# Altium footprint library AD9914BCPZ.PcbLib: 3 footprints
Each footprint in its own frame and in the unit in brackets; x right, y up, seen from the top. Pads: shape width x height; smd on the part's side, far side on the other; paste and mask are expansions set on the pad; w line width, h text height; cw(c..) or ccw(c..) is an arc to the next point about the centre after c.
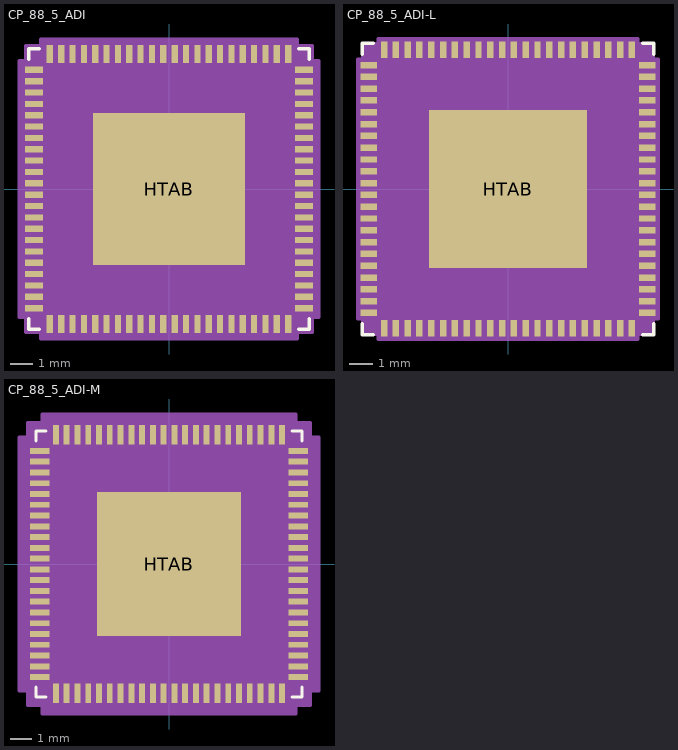
[diagram p0: the footprints below, top view; thin cyan lines are the x and y axes]

## CP_88_5_ADI [mm]
pads (89):
  rect 0.805x0.275 smd paste+0 mask+0: 1(-5.952,5.25) 2(-5.952,4.75) 3(-5.952,4.25) 4(-5.952,3.75) 5(-5.952,3.25) 6(-5.952,2.75) 7(-5.952,2.25) 8(-5.952,1.75) 9(-5.952,1.25) 10(-5.952,0.75) 11(-5.952,0.25) 12(-5.952,-0.25) 13(-5.952,-0.75) 14(-5.952,-1.25) 15(-5.952,-1.75) 16(-5.952,-2.25) 17(-5.952,-2.75) 18(-5.952,-3.25) 19(-5.952,-3.75) 20(-5.952,-4.25) 21(-5.952,-4.75) 22(-5.952,-5.25) 45(5.952,-5.25) 46(5.952,-4.75) 47(5.952,-4.25) 48(5.952,-3.75) 49(5.952,-3.25) 50(5.952,-2.75) 51(5.952,-2.25) 52(5.952,-1.75) 53(5.952,-1.25) 54(5.952,-0.75) 55(5.952,-0.25) 56(5.952,0.25) 57(5.952,0.75) 58(5.952,1.25) 59(5.952,1.75) 60(5.952,2.25) 61(5.952,2.75) 62(5.952,3.25) 63(5.952,3.75) 64(5.952,4.25) 65(5.952,4.75) 66(5.952,5.25)
  rect 0.275x0.805 smd paste+0 mask+0: 23(-5.25,-5.952) 24(-4.75,-5.952) 25(-4.25,-5.952) 26(-3.75,-5.952) 27(-3.25,-5.952) 28(-2.75,-5.952) 29(-2.25,-5.952) 30(-1.75,-5.952) 31(-1.25,-5.952) 32(-0.75,-5.952) 33(-0.25,-5.952) 34(0.25,-5.952) 35(0.75,-5.952) 36(1.25,-5.952) 37(1.75,-5.952) 38(2.25,-5.952) 39(2.75,-5.952) 40(3.25,-5.952) 41(3.75,-5.952) 42(4.25,-5.952) 43(4.75,-5.952) 44(5.25,-5.952) 67(5.25,5.952) 68(4.75,5.952) 69(4.25,5.952) 70(3.75,5.952) 71(3.25,5.952) 72(2.75,5.952) 73(2.25,5.952) 74(1.75,5.952) 75(1.25,5.952) 76(0.75,5.952) 77(0.25,5.952) 78(-0.25,5.952) 79(-0.75,5.952) 80(-1.25,5.952) 81(-1.75,5.952) 82(-2.25,5.952) 83(-2.75,5.952) 84(-3.25,5.952) 85(-3.75,5.952) 86(-4.25,5.952) 87(-4.75,5.952) 88(-5.25,5.952)
  rect 6.7x6.7 smd paste+0 mask+0: HTAB(0,0)
Top Overlay:
  lines w0.152: -6.177,-5.72 -6.177,-6.177 -5.72,-6.177 ; -6.177,5.72 -6.177,6.177 -5.72,6.177 ; 5.72,-6.177 6.177,-6.177 6.177,-5.72 ; 5.72,6.177 6.177,6.177 6.177,5.72
  text ".Designator" at 0.635,-3.492 h1.27
Top Paste:
  region: 2.11,3.25 2.11,2.11 3.25,2.11 3.25,3.25
  region: 0.77,3.25 0.77,2.11 1.91,2.11 1.91,3.25
  region: -0.57,3.25 -0.57,2.11 0.57,2.11 0.57,3.25
  region: -1.91,3.25 -1.91,2.11 -0.77,2.11 -0.77,3.25
  region: -3.25,3.25 -3.25,2.11 -2.11,2.11 -2.11,3.25
  region: 2.11,1.91 2.11,0.77 3.25,0.77 3.25,1.91
  region: 0.77,1.91 0.77,0.77 1.91,0.77 1.91,1.91
  region: -0.57,1.91 -0.57,0.77 0.57,0.77 0.57,1.91
  region: -1.91,1.91 -1.91,0.77 -0.77,0.77 -0.77,1.91
  region: -3.25,1.91 -3.25,0.77 -2.11,0.77 -2.11,1.91
  region: 2.11,0.57 2.11,-0.57 3.25,-0.57 3.25,0.57
  region: 0.77,0.57 0.77,-0.57 1.91,-0.57 1.91,0.57
  region: -0.57,0.57 -0.57,-0.57 0.57,-0.57 0.57,0.57
  region: -1.91,0.57 -1.91,-0.57 -0.77,-0.57 -0.77,0.57
  region: -3.25,0.57 -3.25,-0.57 -2.11,-0.57 -2.11,0.57
  region: 2.11,-0.77 2.11,-1.91 3.25,-1.91 3.25,-0.77
  region: 0.77,-0.77 0.77,-1.91 1.91,-1.91 1.91,-0.77
  region: -0.57,-0.77 -0.57,-1.91 0.57,-1.91 0.57,-0.77
  region: -1.91,-0.77 -1.91,-1.91 -0.77,-1.91 -0.77,-0.77
  region: -3.25,-0.77 -3.25,-1.91 -2.11,-1.91 -2.11,-0.77
  region: 2.11,-2.11 2.11,-3.25 3.25,-3.25 3.25,-2.11
  region: 0.77,-2.11 0.77,-3.25 1.91,-3.25 1.91,-2.11
  region: -0.57,-2.11 -0.57,-3.25 0.57,-3.25 0.57,-2.11
  region: -1.91,-2.11 -1.91,-3.25 -0.77,-3.25 -0.77,-2.11
  region: -3.25,-2.11 -3.25,-3.25 -2.11,-3.25 -2.11,-2.11
Mechanical 13:
  drawing of 184 lines, arcs and shapes, not listed
  text ".Designator" at 0.635,-3.492 h1.27
Mechanical 15:
  region: 6.304,-5.641 6.304,-6.304 5.641,-6.304 5.641,-6.609 -5.641,-6.609 -5.641,-6.304 -6.304,-6.304 -6.304,-5.641 -6.609,-5.641 -6.609,5.641 -6.304,5.641 -6.304,6.304 -5.641,6.304 -5.641,6.609 5.641,6.609 5.641,6.304 6.304,6.304 6.304,5.641 6.609,5.641 6.609,-5.641
  lines w0.152: -6.609,-5.641 -6.609,5.641 -6.304,5.641 -6.304,6.304 -5.641,6.304 -5.641,6.609 5.641,6.609 5.641,6.304 6.304,6.304 6.304,5.641 6.609,5.641 6.609,-5.641 6.304,-5.641 6.304,-6.304 5.641,-6.304 5.641,-6.609 -5.641,-6.609 -5.641,-6.304 -6.304,-6.304 -6.304,-5.641 -6.609,-5.641
3D body "CP_88_5_ADI.step": height 0.9, standoff 0, extent -6.05,-6.05 6.05,6.05

## CP_88_5_ADI-L [mm]
pads (89):
  rect 0.275x0.703 smd paste+0 mask+0: 1(5.25,5.902) 2(4.75,5.902) 3(4.25,5.902) 4(3.75,5.902) 5(3.25,5.902) 6(2.75,5.902) 7(2.25,5.902) 8(1.75,5.902) 9(1.25,5.902) 10(0.75,5.902) 11(0.25,5.902) 12(-0.25,5.902) 13(-0.75,5.902) 14(-1.25,5.902) 15(-1.75,5.902) 16(-2.25,5.902) 17(-2.75,5.902) 18(-3.25,5.902) 19(-3.75,5.902) 20(-4.25,5.902) 21(-4.75,5.902) 22(-5.25,5.902) 45(-5.25,-5.902) 46(-4.75,-5.902) 47(-4.25,-5.902) 48(-3.75,-5.902) 49(-3.25,-5.902) 50(-2.75,-5.902) 51(-2.25,-5.902) 52(-1.75,-5.902) 53(-1.25,-5.902) 54(-0.75,-5.902) 55(-0.25,-5.902) 56(0.25,-5.902) 57(0.75,-5.902) 58(1.25,-5.902) 59(1.75,-5.902) 60(2.25,-5.902) 61(2.75,-5.902) 62(3.25,-5.902) 63(3.75,-5.902) 64(4.25,-5.902) 65(4.75,-5.902) 66(5.25,-5.902)
  rect 0.703x0.275 smd paste+0 mask+0: 23(-5.902,5.25) 24(-5.902,4.75) 25(-5.902,4.25) 26(-5.902,3.75) 27(-5.902,3.25) 28(-5.902,2.75) 29(-5.902,2.25) 30(-5.902,1.75) 31(-5.902,1.25) 32(-5.902,0.75) 33(-5.902,0.25) 34(-5.902,-0.25) 35(-5.902,-0.75) 36(-5.902,-1.25) 37(-5.902,-1.75) 38(-5.902,-2.25) 39(-5.902,-2.75) 40(-5.902,-3.25) 41(-5.902,-3.75) 42(-5.902,-4.25) 43(-5.902,-4.75) 44(-5.902,-5.25) 67(5.902,-5.25) 68(5.902,-4.75) 69(5.902,-4.25) 70(5.902,-3.75) 71(5.902,-3.25) 72(5.902,-2.75) 73(5.902,-2.25) 74(5.902,-1.75) 75(5.902,-1.25) 76(5.902,-0.75) 77(5.902,-0.25) 78(5.902,0.25) 79(5.902,0.75) 80(5.902,1.25) 81(5.902,1.75) 82(5.902,2.25) 83(5.902,2.75) 84(5.902,3.25) 85(5.902,3.75) 86(5.902,4.25) 87(5.902,4.75) 88(5.902,5.25)
  rect 6.7x6.7 smd paste+0 mask+0: HTAB(0,0)
Top Overlay:
  lines w0.152: -6.177,-5.72 -6.177,-6.177 -5.72,-6.177 ; -6.177,5.72 -6.177,6.177 -5.72,6.177 ; 5.72,-6.177 6.177,-6.177 6.177,-5.72 ; 5.72,6.177 6.177,6.177 6.177,5.72
  text ".Designator" at -3.492,-0.635 h1.27
Top Paste:
  region: -2.11,3.25 -3.25,3.25 -3.25,2.11 -2.11,2.11
  region: -2.11,1.91 -3.25,1.91 -3.25,0.77 -2.11,0.77
  region: -2.11,0.57 -3.25,0.57 -3.25,-0.57 -2.11,-0.57
  region: -2.11,-0.77 -3.25,-0.77 -3.25,-1.91 -2.11,-1.91
  region: -2.11,-2.11 -3.25,-2.11 -3.25,-3.25 -2.11,-3.25
  region: -0.77,3.25 -1.91,3.25 -1.91,2.11 -0.77,2.11
  region: -0.77,1.91 -1.91,1.91 -1.91,0.77 -0.77,0.77
  region: -0.77,0.57 -1.91,0.57 -1.91,-0.57 -0.77,-0.57
  region: -0.77,-0.77 -1.91,-0.77 -1.91,-1.91 -0.77,-1.91
  region: -0.77,-2.11 -1.91,-2.11 -1.91,-3.25 -0.77,-3.25
  region: 0.57,3.25 -0.57,3.25 -0.57,2.11 0.57,2.11
  region: 0.57,1.91 -0.57,1.91 -0.57,0.77 0.57,0.77
  region: 0.57,0.57 -0.57,0.57 -0.57,-0.57 0.57,-0.57
  region: 0.57,-0.77 -0.57,-0.77 -0.57,-1.91 0.57,-1.91
  region: 0.57,-2.11 -0.57,-2.11 -0.57,-3.25 0.57,-3.25
  region: 1.91,3.25 0.77,3.25 0.77,2.11 1.91,2.11
  region: 1.91,1.91 0.77,1.91 0.77,0.77 1.91,0.77
  region: 1.91,0.57 0.77,0.57 0.77,-0.57 1.91,-0.57
  region: 1.91,-0.77 0.77,-0.77 0.77,-1.91 1.91,-1.91
  region: 1.91,-2.11 0.77,-2.11 0.77,-3.25 1.91,-3.25
  region: 3.25,3.25 2.11,3.25 2.11,2.11 3.25,2.11
  region: 3.25,1.91 2.11,1.91 2.11,0.77 3.25,0.77
  region: 3.25,0.57 2.11,0.57 2.11,-0.57 3.25,-0.57
  region: 3.25,-0.77 2.11,-0.77 2.11,-1.91 3.25,-1.91
  region: 3.25,-2.11 2.11,-2.11 2.11,-3.25 3.25,-3.25
Mechanical 13:
  drawing of 184 lines, arcs and shapes, not listed
  text ".Designator" at -3.492,-0.635 h1.27
Mechanical 15:
  region: -5.489,-6.152 -6.152,-6.152 -6.152,-5.489 -6.355,-5.489 -6.355,5.489 -6.152,5.489 -6.152,6.152 -5.489,6.152 -5.489,6.355 5.489,6.355 5.489,6.152 6.152,6.152 6.152,5.489 6.355,5.489 6.355,-5.489 6.152,-5.489 6.152,-6.152 5.489,-6.152 5.489,-6.355 -5.489,-6.355
  lines w0.152: -6.355,-5.489 -6.152,-5.489 -6.152,-6.152 -5.489,-6.152 -5.489,-6.355 5.489,-6.355 5.489,-6.152 6.152,-6.152 6.152,-5.489 6.355,-5.489 6.355,5.489 6.152,5.489 6.152,6.152 5.489,6.152 5.489,6.355 -5.489,6.355 -5.489,6.152 -6.152,6.152 -6.152,5.489 -6.355,5.489 -6.355,-5.489
3D body "CP_88_5_ADI.step": height 0.9, standoff 0, extent -6.05,-6.05 6.05,6.05

## CP_88_5_ADI-M [mm]
pads (89):
  rect 0.275x0.906 smd paste+0 mask+0: 1(5.25,6.003) 2(4.75,6.003) 3(4.25,6.003) 4(3.75,6.003) 5(3.25,6.003) 6(2.75,6.003) 7(2.25,6.003) 8(1.75,6.003) 9(1.25,6.003) 10(0.75,6.003) 11(0.25,6.003) 12(-0.25,6.003) 13(-0.75,6.003) 14(-1.25,6.003) 15(-1.75,6.003) 16(-2.25,6.003) 17(-2.75,6.003) 18(-3.25,6.003) 19(-3.75,6.003) 20(-4.25,6.003) 21(-4.75,6.003) 22(-5.25,6.003) 45(-5.25,-6.003) 46(-4.75,-6.003) 47(-4.25,-6.003) 48(-3.75,-6.003) 49(-3.25,-6.003) 50(-2.75,-6.003) 51(-2.25,-6.003) 52(-1.75,-6.003) 53(-1.25,-6.003) 54(-0.75,-6.003) 55(-0.25,-6.003) 56(0.25,-6.003) 57(0.75,-6.003) 58(1.25,-6.003) 59(1.75,-6.003) 60(2.25,-6.003) 61(2.75,-6.003) 62(3.25,-6.003) 63(3.75,-6.003) 64(4.25,-6.003) 65(4.75,-6.003) 66(5.25,-6.003)
  rect 0.906x0.275 smd paste+0 mask+0: 23(-6.003,5.25) 24(-6.003,4.75) 25(-6.003,4.25) 26(-6.003,3.75) 27(-6.003,3.25) 28(-6.003,2.75) 29(-6.003,2.25) 30(-6.003,1.75) 31(-6.003,1.25) 32(-6.003,0.75) 33(-6.003,0.25) 34(-6.003,-0.25) 35(-6.003,-0.75) 36(-6.003,-1.25) 37(-6.003,-1.75) 38(-6.003,-2.25) 39(-6.003,-2.75) 40(-6.003,-3.25) 41(-6.003,-3.75) 42(-6.003,-4.25) 43(-6.003,-4.75) 44(-6.003,-5.25) 67(6.003,-5.25) 68(6.003,-4.75) 69(6.003,-4.25) 70(6.003,-3.75) 71(6.003,-3.25) 72(6.003,-2.75) 73(6.003,-2.25) 74(6.003,-1.75) 75(6.003,-1.25) 76(6.003,-0.75) 77(6.003,-0.25) 78(6.003,0.25) 79(6.003,0.75) 80(6.003,1.25) 81(6.003,1.75) 82(6.003,2.25) 83(6.003,2.75) 84(6.003,3.25) 85(6.003,3.75) 86(6.003,4.25) 87(6.003,4.75) 88(6.003,5.25)
  rect 6.7x6.7 smd paste+0 mask+0: HTAB(0,0)
Top Overlay:
  lines w0.152: -6.177,-5.72 -6.177,-6.177 -5.72,-6.177 ; -6.177,5.72 -6.177,6.177 -5.72,6.177 ; 5.72,-6.177 6.177,-6.177 6.177,-5.72 ; 5.72,6.177 6.177,6.177 6.177,5.72
  text ".Designator" at -3.492,-0.635 h1.27
Top Paste:
  region: 3.25,-2.11 2.11,-2.11 2.11,-3.25 3.25,-3.25
  region: 3.25,-0.77 2.11,-0.77 2.11,-1.91 3.25,-1.91
  region: 3.25,0.57 2.11,0.57 2.11,-0.57 3.25,-0.57
  region: 3.25,1.91 2.11,1.91 2.11,0.77 3.25,0.77
  region: 3.25,3.25 2.11,3.25 2.11,2.11 3.25,2.11
  region: 1.91,-2.11 0.77,-2.11 0.77,-3.25 1.91,-3.25
  region: 1.91,-0.77 0.77,-0.77 0.77,-1.91 1.91,-1.91
  region: 1.91,0.57 0.77,0.57 0.77,-0.57 1.91,-0.57
  region: 1.91,1.91 0.77,1.91 0.77,0.77 1.91,0.77
  region: 1.91,3.25 0.77,3.25 0.77,2.11 1.91,2.11
  region: 0.57,-2.11 -0.57,-2.11 -0.57,-3.25 0.57,-3.25
  region: 0.57,-0.77 -0.57,-0.77 -0.57,-1.91 0.57,-1.91
  region: 0.57,0.57 -0.57,0.57 -0.57,-0.57 0.57,-0.57
  region: 0.57,1.91 -0.57,1.91 -0.57,0.77 0.57,0.77
  region: 0.57,3.25 -0.57,3.25 -0.57,2.11 0.57,2.11
  region: -0.77,-2.11 -1.91,-2.11 -1.91,-3.25 -0.77,-3.25
  region: -0.77,-0.77 -1.91,-0.77 -1.91,-1.91 -0.77,-1.91
  region: -0.77,0.57 -1.91,0.57 -1.91,-0.57 -0.77,-0.57
  region: -0.77,1.91 -1.91,1.91 -1.91,0.77 -0.77,0.77
  region: -0.77,3.25 -1.91,3.25 -1.91,2.11 -0.77,2.11
  region: -2.11,-2.11 -3.25,-2.11 -3.25,-3.25 -2.11,-3.25
  region: -2.11,-0.77 -3.25,-0.77 -3.25,-1.91 -2.11,-1.91
  region: -2.11,0.57 -3.25,0.57 -3.25,-0.57 -2.11,-0.57
  region: -2.11,1.91 -3.25,1.91 -3.25,0.77 -2.11,0.77
  region: -2.11,3.25 -3.25,3.25 -3.25,2.11 -2.11,2.11
Mechanical 13:
  drawing of 184 lines, arcs and shapes, not listed
  text ".Designator" at -3.492,-0.635 h1.27
Mechanical 15:
  region: -5.895,-6.558 -6.558,-6.558 -6.558,-5.895 -6.964,-5.895 -6.964,5.895 -6.558,5.895 -6.558,6.558 -5.895,6.558 -5.895,6.964 5.895,6.964 5.895,6.558 6.558,6.558 6.558,5.895 6.964,5.895 6.964,-5.895 6.558,-5.895 6.558,-6.558 5.895,-6.558 5.895,-6.964 -5.895,-6.964
  lines w0.152: -6.964,-5.895 -6.964,5.895 -6.558,5.895 -6.558,6.558 -5.895,6.558 -5.895,6.964 5.895,6.964 5.895,6.558 6.558,6.558 6.558,5.895 6.964,5.895 6.964,-5.895 6.558,-5.895 6.558,-6.558 5.895,-6.558 5.895,-6.964 -5.895,-6.964 -5.895,-6.558 -6.558,-6.558 -6.558,-5.895 -6.964,-5.895
3D body "CP_88_5_ADI.step": height 0.9, standoff 0, extent -6.05,-6.05 6.05,6.05